# EAGLE library part 5037630691 (library Artemis)
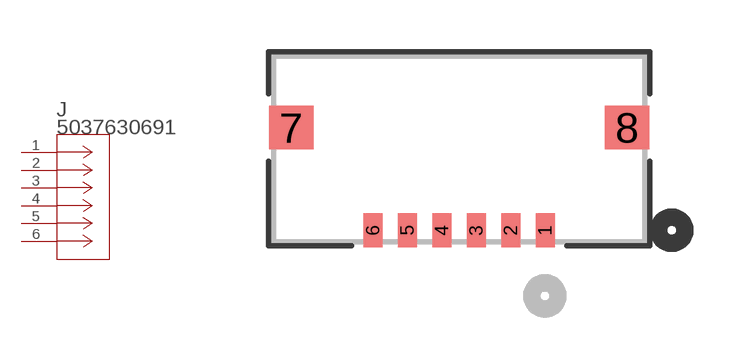
[diagram p13: symbol with the pads of CONN_503763-0691_MOL; footprint CONN_503763-0691_MOL]

Designator prefix J

## 5037630691 (BUILT_BY: EMA_Cory; COPYRIGHT: Copyright (C) 2018 Accelerated Designs. All rights reserved; DATASHEET: https://www.digikey.com/products/en?keywords=503763-0691; MANUFACTURER_PART_NUMBER: 503763-0691; SOURCELIBRARY: Molex_2020-01-22; VENDOR: Molex Connector Corporation)  [CONN_503763-0691_MOL]
1  1  pas
2  2  pas
3  3  pas
4  4  pas
5  5  pas
6  6  pas

## Footprint CONN_503763-0691_MOL (pad centres in mm)
smd 0.559 x 0.991: 1 2.5,-2.368; 2 1.5,-2.368; 3 0.5,-2.368; 4 -0.5,-2.368; 5 -1.5,-2.368; 6 -2.5,-2.368
smd 1.295 x 1.27: 7 -4.875,0.622; 8 4.875,0.622